# EAGLE library part AD5791 (library ICs)
20 Bit Digital to Analog Converter 1 20-TSSOP
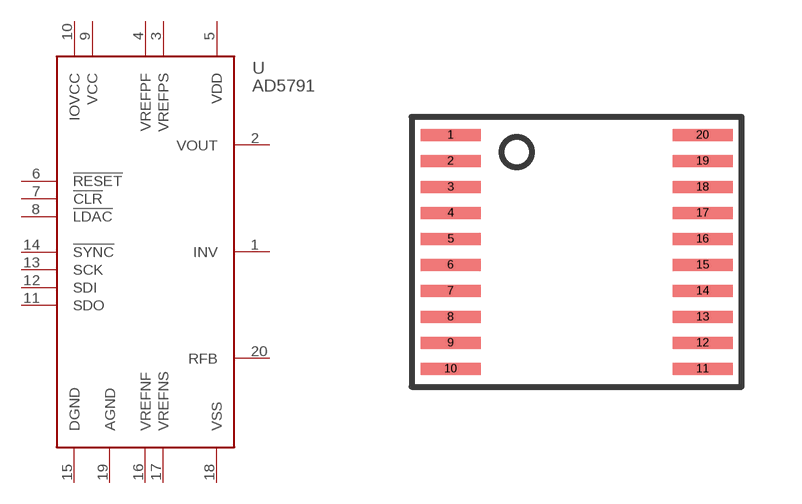
[diagram p231: symbol with the pads of SSOP20-4.5MM; footprint SSOP20-4.5MM]

Designator prefix U

## AD5791 (DIGIKEY: AD5791BRUZ-ND; HEIGHT: 1; PRICE_PER: 88.01; VALUE: AD5791B)  [SSOP20-4.5MM]
1  INV
2  VOUT
3  VREFPS
4  VREFPF
5  VDD
6  !RESET
7  !CLR
8  !LDAC
9  VCC
10  IOVCC
11  SDO
12  SDI
13  SCK
14  !SYNC
15  DGND
16  VREFNF
17  VREFNS
18  VSS
19  AGND
20  RFB

## Footprint SSOP20-4.5MM (pad centres in mm)
smd 1.5 x 0.3: 1 -3.15,2.925; 2 -3.15,2.275; 3 -3.15,1.625; 4 -3.15,0.975; 5 -3.15,0.325; 6 -3.15,-0.325; 7 -3.15,-0.975; 8 -3.15,-1.625; 9 -3.15,-2.275; 10 -3.15,-2.925; 11 3.15,-2.925; 12 3.15,-2.275; 13 3.15,-1.625; 14 3.15,-0.975; 15 3.15,-0.325; 16 3.15,0.325; 17 3.15,0.975; 18 3.15,1.625; 19 3.15,2.275; 20 3.15,2.925